# Altium footprint library axis.PCBLIB: 1 footprints
Each footprint in its own frame and in the unit in brackets; x right, y up, seen from the top. Pads: shape width x height; smd on the part's side, far side on the other; paste and mask are expansions set on the pad; w line width, h text height; cw(c..) or ccw(c..) is an arc to the next point about the centre after c.
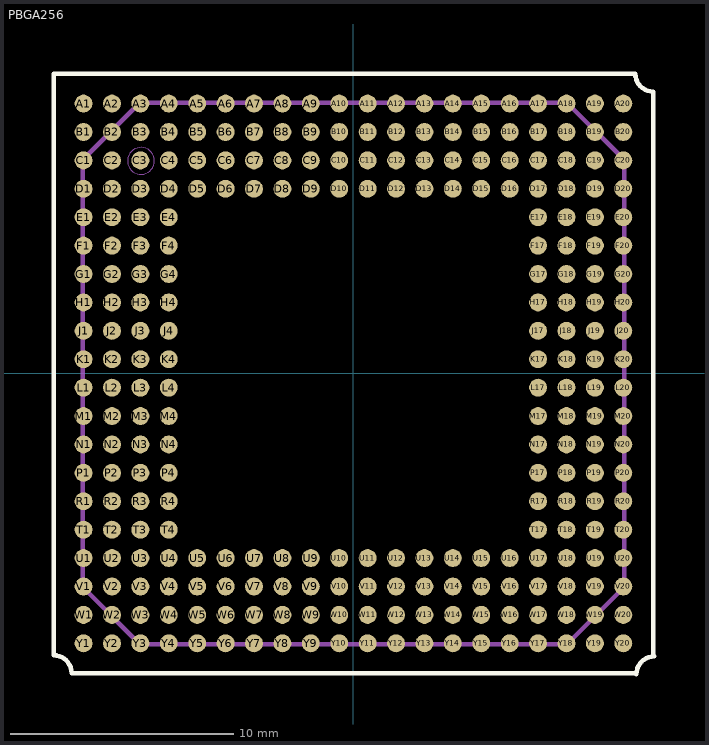
[diagram p0: the footprint, top view; thin cyan lines are the x and y axes]

## PBGA256 [mil]
pads (256):
  rrect100% 31.5x31.5 smd: A1(-475,475) A2(-425,475) A3(-375,475) A4(-325,475) A5(-275,475) A6(-225,475) A7(-175,475) A8(-125,475) A9(-75,475) A10(-25,475) A11(25,475) A12(75,475) A13(125,475) A14(175,475) A15(225,475) A16(275,475) A17(325,475) A18(375,475) A19(425,475) A20(475,475) B1(-475,425) B2(-425,425) B3(-375,425) B4(-325,425) B5(-275,425) B6(-225,425) B7(-175,425) B8(-125,425) B9(-75,425) B10(-25,425) B11(25,425) B12(75,425) B13(125,425) B14(175,425) B15(225,425) B16(275,425) B17(325,425) B18(375,425) B19(425,425) B20(475,425) C1(-475,375) C2(-425,375) C3(-375,375) C4(-325,375) C5(-275,375) C6(-225,375) C7(-175,375) C8(-125,375) C9(-75,375) C10(-25,375) C11(25,375) C12(75,375) C13(125,375) C14(175,375) C15(225,375) C16(275,375) C17(325,375) C18(375,375) C19(425,375) C20(475,375) D1(-475,325) D2(-425,325) D3(-375,325) D4(-325,325) D5(-275,325) D6(-225,325) D7(-175,325) D8(-125,325) D9(-75,325) D10(-25,325) D11(25,325) D12(75,325) D13(125,325) D14(175,325) D15(225,325) D16(275,325) D17(325,325) D18(375,325) D19(425,325) D20(475,325) E1(-475,275) E2(-425,275) E3(-375,275) E4(-325,275) E17(325,275) E18(375,275) E19(425,275) E20(475,275) F1(-475,225) F2(-425,225) F3(-375,225) F4(-325,225) F17(325,225) F18(375,225) F19(425,225) F20(475,225) G1(-475,175) G2(-425,175) G3(-375,175) G4(-325,175) G17(325,175) G18(375,175) G19(425,175) G20(475,175) H1(-475,125) H2(-425,125) H3(-375,125) H4(-325,125) H17(325,125) H18(375,125) H19(425,125) H20(475,125) J1(-475,75) J2(-425,75) J3(-375,75) J4(-325,75) J17(325,75) J18(375,75) J19(425,75) J20(475,75) K1(-475,25) K2(-425,25) K3(-375,25) K4(-325,25) K17(325,25) K18(375,25) K19(425,25) K20(475,25) L1(-475,-25) L2(-425,-25) L3(-375,-25) L4(-325,-25) L17(325,-25) L18(375,-25) L19(425,-25) L20(475,-25) M1(-475,-75) M2(-425,-75) M3(-375,-75) M4(-325,-75) M17(325,-75) M18(375,-75) M19(425,-75) M20(475,-75) N1(-475,-125) N2(-425,-125) N3(-375,-125) N4(-325,-125) N17(325,-125) N18(375,-125) N19(425,-125) N20(475,-125) P1(-475,-175) P2(-425,-175) P3(-375,-175) P4(-325,-175) P17(325,-175) P18(375,-175) P19(425,-175) P20(475,-175) R1(-475,-225) R2(-425,-225) R3(-375,-225) R4(-325,-225) R17(325,-225) R18(375,-225) R19(425,-225) R20(475,-225) T1(-475,-275) T2(-425,-275) T3(-375,-275) T4(-325,-275) T17(325,-275) T18(375,-275) T19(425,-275) T20(475,-275) U1(-475,-325) U2(-425,-325) U3(-375,-325) U4(-325,-325) U5(-275,-325) U6(-225,-325) U7(-175,-325) U8(-125,-325) U9(-75,-325) U10(-25,-325) U11(25,-325) U12(75,-325) U13(125,-325) U14(175,-325) U15(225,-325) U16(275,-325) U17(325,-325) U18(375,-325) U19(425,-325) U20(475,-325) V1(-475,-375) V2(-425,-375) V3(-375,-375) V4(-325,-375) V5(-275,-375) V6(-225,-375) V7(-175,-375) V8(-125,-375) V9(-75,-375) V10(-25,-375) V11(25,-375) V12(75,-375) V13(125,-375) V14(175,-375) V15(225,-375) V16(275,-375) V17(325,-375) V18(375,-375) V19(425,-375) V20(475,-375) W1(-475,-425) W2(-425,-425) W3(-375,-425) W4(-325,-425) W5(-275,-425) W6(-225,-425) W7(-175,-425) W8(-125,-425) W9(-75,-425) W10(-25,-425) W11(25,-425) W12(75,-425) W13(125,-425) W14(175,-425) W15(225,-425) W16(275,-425) W17(325,-425) W18(375,-425) W19(425,-425) W20(475,-425) Y1(-475,-475) Y2(-425,-475) Y3(-375,-475) Y4(-325,-475) Y5(-275,-475) Y6(-225,-475) Y7(-175,-475) Y8(-125,-475) Y9(-75,-475) Y10(-25,-475) Y11(25,-475) Y12(75,-475) Y13(125,-475) Y14(175,-475) Y15(225,-475) Y16(275,-475) Y17(325,-475) Y18(375,-475) Y19(425,-475) Y20(475,-475)
Top Overlay:
  lines w8: 498.03,-529.53 cw(c529.53,-529.53) 529.53,-498.03 ; 498.03,-527.56 -496.06,-527.56 ccw(c-527.56,-527.56) -527.56,-496.06 -527.56,527.56 496.06,527.56 ccw(c527.56,527.56) 527.56,496.06 527.56,-498.03
Mechanical 16:
  circle w0: c-374.02,374.02 r23.7
  lines w8: -476.38,-375.98 -476.38,375.98 -375.98,476.38 375.98,476.38 476.38,375.98 476.38,-375.98 375.98,-476.38 -375.98,-476.38 -476.38,-375.98